# EAGLE library part BGSA12GN10E6327XTSA1 (library BGSA12GN10E6327XTSA1)
RF Switch ICs CMOS SWITCH Source: Datasheet <https://www.infineon.com/dgdl/Infineon-BGSA12GN10-DS-v02_10-EN.pdf?fileId=5546d46255dd933d0155e9daddca09f6>
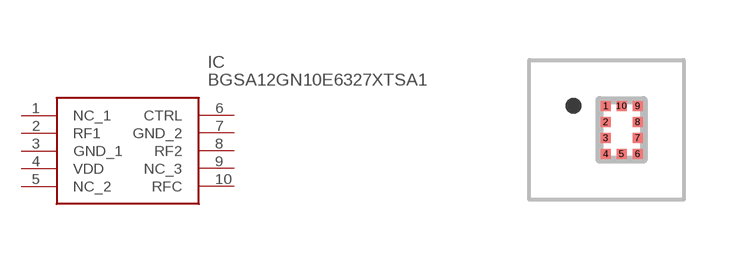
[diagram p0: symbol with the pads of BGSA12GN10E6327XTSA1; footprint BGSA12GN10E6327XTSA1]

Designator prefix IC

## BGSA12GN10E6327XTSA1 (Description: RF Switch ICs CMOS SWITCH; Height: 0mm; Manufacturer_Name: Infineon; Manufacturer_Part_Number: BGSA12GN10E6327XTSA1; Mouser_Part_Number: 726-BGSA12GN10E6327X; Mouser_Price-Stock: https://www.mouser.com/Search/Refine.aspx?Keyword=726-BGSA12GN10E6327X)  [BGSA12GN10E6327XTSA1]
1  NC_1
2  RF1
3  GND_1
4  VDD
5  NC_2
6  CTRL
7  GND_2
8  RF2
9  NC_3
10  RFC

## Footprint BGSA12GN10E6327XTSA1 (pad centres in mm)
PG-TSNP-10-1
smd 0.25 x 0.25: 1 -0.025,0.6; 2 -0.025,0.2; 3 -0.025,-0.2; 4 -0.025,-0.6; 5 0.375,-0.6; 6 0.775,-0.6; 7 0.775,-0.2; 8 0.775,0.2; 9 0.775,0.6; 10 0.375,0.6